# Altium integrated library TI Power Management Power Multiplexer (MUX).IntLib: 62 symbols (part 3 of 3)
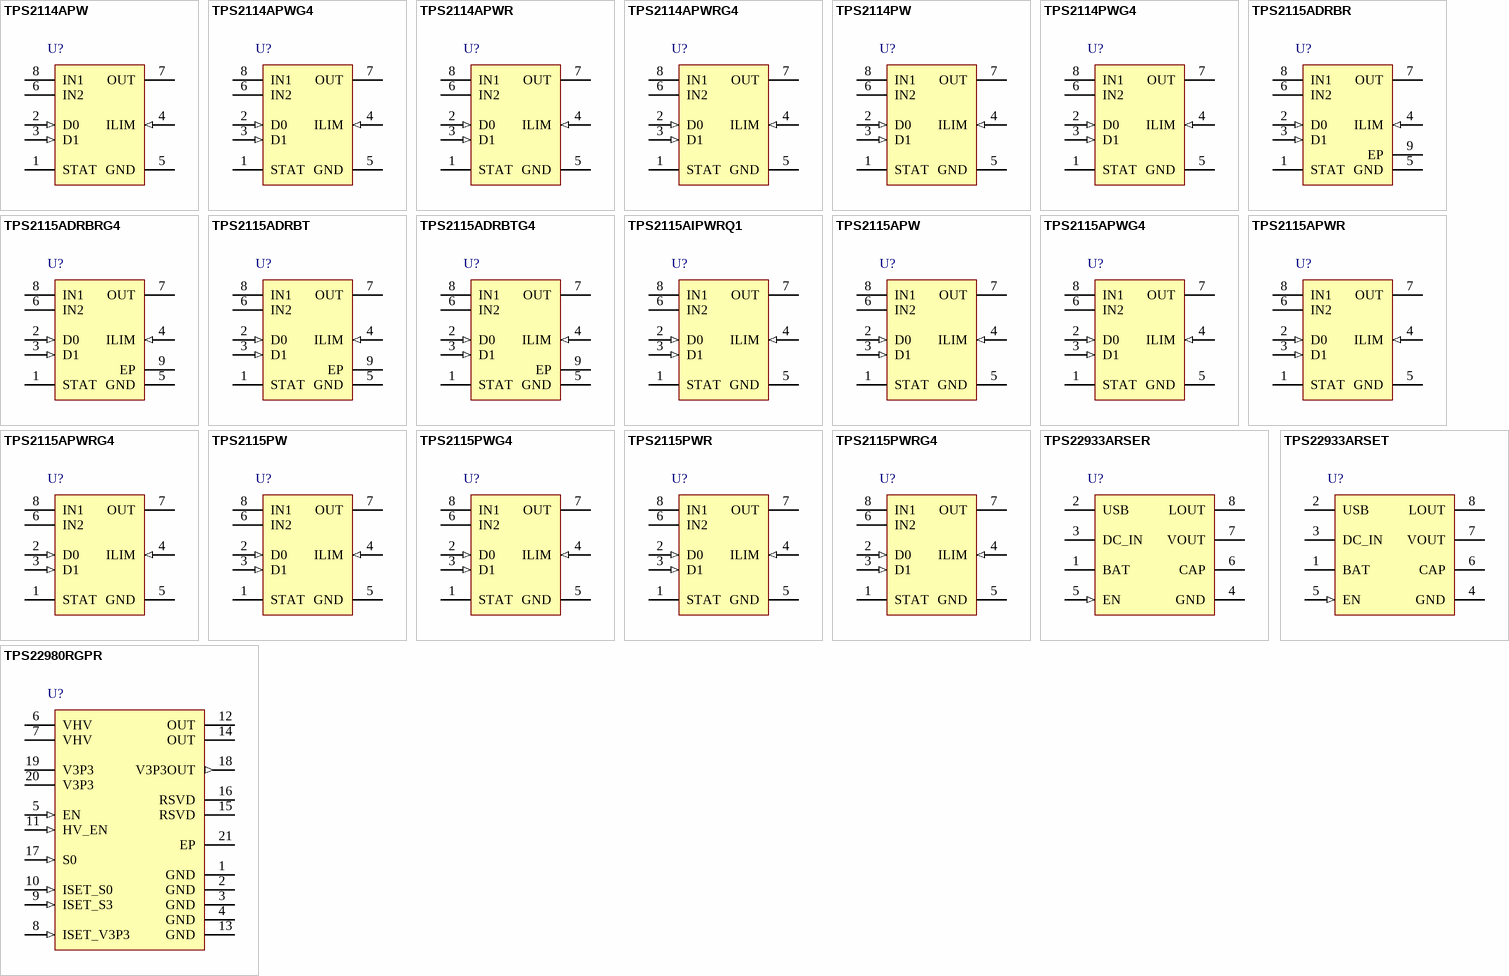
[diagram p3: symbols TPS2114APW to TPS22980RGPR]

## TPS2114APWR
designator U?
Dual In / Single Out Autoswitching Power Mux, 2.8 to 5.5 V, -40 to 85 degC, 8-pin TSSOP (PW), Green (RoHS & no Sb/Br); Manufacturer: Texas Instruments; PartNumber: TPS2114APWR; IN1 Output Current(Max)(A): 0.75; IN1 rDS(on)(Typ)(mOhm): 120; IN1, IN2 Input Voltage(Max)(V): 5.5; IN1, IN2 Input Voltage(Min)(V): 2.8; IN2 rDS(on)(Typ)(Ohms): 0.12; Number of Inputs: 2; SubFamily: Power Multiplexer (MUX); DatasheetVersion: SBVS044F; PackageVersion: revG, Feb-2011; PackageReference: PW8; PackageDescription: 8-Pin Plastic Thin Small Outline Package 3 x 4.4 mm Body ,0.65 mm Pitch; Supplier 1: Digi-Key; Supplier Part Number 1: 296-16939-2-ND; Supplier 2: Digi-Key; Supplier Part Number 2: 296-16939-1-ND; Supplier 3: Digi-Key; Supplier Part Number 3: 296-16939-6-ND; Supplier 4: Newark; Supplier Part Number 4: 01J0963; Supplier 5: Mouser; Supplier Part Number 5: 595-TPS2114APWR; Eco-Plan: Green (RoHS & no Sb/Br); IN2 Output Current(Max)(A): 0.75; Mounting Technology: Surface Mount; Code_JEDEC: MO-153; ComponentLink1Description: Datasheet; ComponentLink1URL: http://www.ti.com/general/docs/lit/getliterature.tsp?genericPartNumber=TPS2114A&fileType=pdf
footprint PW8_N (TSOP, 8-Leads, Body 3x4.4mm, Pitch 0.65mm, IPC Medium Density)
footprint PW8_L (TSOP, 8-Leads, Body 3x4.4mm, Pitch 0.65mm, IPC High Density)
footprint PW8_M (TSOP, 8-Leads, Body 3x4.4mm, Pitch 0.65mm, IPC Low Density)
pins: 1 STAT (hiz) "STAT is an open-drain output that is Hi-Z if the IN2 switch is ON. STAT pulls low if the IN1 switch is ON or if OUT is Hi-Z (i.e., E\N\ is equal to logic 0).", 2 D0 (in) "TTL- and CMOS-compatible input pins. Each pin has a 1-uA pull-up.", 3 D1 (in) "TTL- and CMOS-compatible input pins. Each pin has a 1-uA pull-up.", 4 ILIM (in) "A resistor RILIM from ILIM to GND sets the current limit IL to 250/RILIM .", 5 GND (power) "Ground", 6 IN2 (power) "Primary power switch input. The IN1 switch can be enabled only if the IN1 supply is above the UVLO threshold and at least one supply exceeds the internal VDD UVLO.", 7 OUT (power) "Power switch output", 8 IN1 (power) "Primary power switch input. The IN1 switch can be enabled only if the IN1 supply is above the UVLO threshold and at least one supply exceeds the internal VDD UVLO."

## TPS2114APWRG4
designator U?
Dual In / Single Out Autoswitching Power Mux, 2.8 to 5.5 V, -40 to 85 degC, 8-pin TSSOP (PW), Green (RoHS & no Sb/Br); Manufacturer: Texas Instruments; PartNumber: TPS2114APWRG4; IN1 Output Current(Max)(A): 0.75; IN1 rDS(on)(Typ)(mOhm): 120; IN1, IN2 Input Voltage(Max)(V): 5.5; IN1, IN2 Input Voltage(Min)(V): 2.8; IN2 rDS(on)(Typ)(Ohms): 0.12; Number of Inputs: 2; SubFamily: Power Multiplexer (MUX); DatasheetVersion: SBVS044F; PackageVersion: revG, Feb-2011; PackageReference: PW8; PackageDescription: 8-Pin Plastic Thin Small Outline Package 3 x 4.4 mm Body ,0.65 mm Pitch; Supplier 1: Digi-Key; Supplier Part Number 1: TPS2114APWRG4-ND; Supplier 2: Newark; Supplier Part Number 2: 54K1560; Supplier 3: Mouser; Supplier Part Number 3: 595-TPS2114APWRG4; Eco-Plan: Green (RoHS & no Sb/Br); IN2 Output Current(Max)(A): 0.75; Mounting Technology: Surface Mount; Code_JEDEC: MO-153; ComponentLink1Description: Datasheet; ComponentLink1URL: http://www.ti.com/general/docs/lit/getliterature.tsp?genericPartNumber=TPS2114A&fileType=pdf
footprint PW8_N (TSOP, 8-Leads, Body 3x4.4mm, Pitch 0.65mm, IPC Medium Density)
footprint PW8_L (TSOP, 8-Leads, Body 3x4.4mm, Pitch 0.65mm, IPC High Density)
footprint PW8_M (TSOP, 8-Leads, Body 3x4.4mm, Pitch 0.65mm, IPC Low Density)
pins: 1 STAT (hiz) "STAT is an open-drain output that is Hi-Z if the IN2 switch is ON. STAT pulls low if the IN1 switch is ON or if OUT is Hi-Z (i.e., E\N\ is equal to logic 0).", 2 D0 (in) "TTL- and CMOS-compatible input pins. Each pin has a 1-uA pull-up.", 3 D1 (in) "TTL- and CMOS-compatible input pins. Each pin has a 1-uA pull-up.", 4 ILIM (in) "A resistor RILIM from ILIM to GND sets the current limit IL to 250/RILIM .", 5 GND (power) "Ground", 6 IN2 (power) "Primary power switch input. The IN1 switch can be enabled only if the IN1 supply is above the UVLO threshold and at least one supply exceeds the internal VDD UVLO.", 7 OUT (power) "Power switch output", 8 IN1 (power) "Primary power switch input. The IN1 switch can be enabled only if the IN1 supply is above the UVLO threshold and at least one supply exceeds the internal VDD UVLO."

## TPS2114PW
designator U?
Dual In / Single Out Autoswitching Power MUX, Manual / Auto Switching, Adj. Cur Limit, Switch Status, 2.8 to 5.5 V, -40 to 85 degC, 8-pin TSSOP (PW), Green (RoHS & no Sb/Br); Manufacturer: Texas Instruments; PartNumber: TPS2114PW; IN1 Output Current(Max)(A): 0.75; IN1 rDS(on)(Typ)(mOhm): 120; IN1, IN2 Input Voltage(Max)(V): 5.5; IN1, IN2 Input Voltage(Min)(V): 2.8; IN2 rDS(on)(Typ)(Ohms): 0.12; Number of Inputs: 2; SubFamily: Power Multiplexer (MUX); DatasheetVersion: SLVS447A; PackageVersion: revG, Feb-2011; PackageReference: PW8; PackageDescription: 8-Pin Plastic Thin Small Outline Package 3 x 4.4 mm Body ,0.65 mm Pitch; Supplier 1: Digi-Key; Supplier Part Number 1: 296-14206-5-ND; Supplier 2: Newark; Supplier Part Number 2: 22H1365; Supplier 3: Mouser; Supplier Part Number 3: 595-TPS2114PW; Eco-Plan: Green (RoHS & no Sb/Br); IN2 Output Current(Max)(A): 0.75; Mounting Technology: Surface Mount; Code_JEDEC: MO-153; ComponentLink1Description: Datasheet; ComponentLink1URL: http://www.ti.com/general/docs/lit/getliterature.tsp?genericPartNumber=TPS2114&fileType=pdf
footprint PW8_N (TSOP, 8-Leads, Body 3x4.4mm, Pitch 0.65mm, IPC Medium Density)
footprint PW8_L (TSOP, 8-Leads, Body 3x4.4mm, Pitch 0.65mm, IPC High Density)
footprint PW8_M (TSOP, 8-Leads, Body 3x4.4mm, Pitch 0.65mm, IPC Low Density)
pins: 1 STAT (hiz) "STAT is an open-drain output that is Hi-Z if the IN2 switch is ON. STAT pulls low if the IN1 switch is ON or if OUT is Hi-Z (i.e., E\N\ is equal to logic 0).", 2 D0 (in) "TTL and CMOS compatible input pins. Each pin has a 1-µA pullup resistor. The truth table shown above illustrates the functionality of D0 and D1.", 3 D1 (in) "TTL and CMOS compatible input pins. Each pin has a 1-µA pullup resistor. The truth table shown above illustrates the functionality of D0 and D1.", 4 ILIM (in) "A resistor R(ILIM) from ILIM to GND sets the current limit I L to 250/R(ILIM) and 500/R(ILIM) for the TPS2114 and TPS2115, respectively.", 5 GND (power) "Ground", 6 IN2 (power) "Secondary power switch input. The IN2 switch can be enabled only if the IN2 supply is above the UVLO threshold and at least one supply exceeds the internal VDD UVLO.", 7 OUT (power) "Power switch output", 8 IN1 (power) "Primary power switch input. The IN1 switch can be enabled only if the IN1 supply is above the UVLO threshold and at least one supply exceeds the internal VDD UVLO."

## TPS2114PWG4
designator U?
Dual In / Single Out Autoswitching Power MUX, Manual / Auto Switching, Adj. Cur Limit, Switch Status, 2.8 to 5.5 V, -40 to 85 degC, 8-pin TSSOP (PW), Green (RoHS & no Sb/Br); Manufacturer: Texas Instruments; PartNumber: TPS2114PWG4; IN1 Output Current(Max)(A): 0.75; IN1 rDS(on)(Typ)(mOhm): 120; IN1, IN2 Input Voltage(Max)(V): 5.5; IN1, IN2 Input Voltage(Min)(V): 2.8; IN2 rDS(on)(Typ)(Ohms): 0.12; Number of Inputs: 2; SubFamily: Power Multiplexer (MUX); DatasheetVersion: SLVS447A; PackageVersion: revG, Feb-2011; PackageReference: PW8; PackageDescription: 8-Pin Plastic Thin Small Outline Package 3 x 4.4 mm Body ,0.65 mm Pitch; Supplier 1: Digi-Key; Supplier Part Number 1: TPS2114PWG4-ND; Supplier 2: Newark; Supplier Part Number 2: 02M4304; Supplier 3: Mouser; Supplier Part Number 3: 595-TPS2114PWG4; Eco-Plan: Green (RoHS & no Sb/Br); IN2 Output Current(Max)(A): 0.75; Mounting Technology: Surface Mount; Code_JEDEC: MO-153; ComponentLink1Description: Datasheet; ComponentLink1URL: http://www.ti.com/general/docs/lit/getliterature.tsp?genericPartNumber=TPS2114&fileType=pdf
footprint PW8_N (TSOP, 8-Leads, Body 3x4.4mm, Pitch 0.65mm, IPC Medium Density)
footprint PW8_L (TSOP, 8-Leads, Body 3x4.4mm, Pitch 0.65mm, IPC High Density)
footprint PW8_M (TSOP, 8-Leads, Body 3x4.4mm, Pitch 0.65mm, IPC Low Density)
pins: 1 STAT (hiz) "STAT is an open-drain output that is Hi-Z if the IN2 switch is ON. STAT pulls low if the IN1 switch is ON or if OUT is Hi-Z (i.e., E\N\ is equal to logic 0).", 2 D0 (in) "TTL and CMOS compatible input pins. Each pin has a 1-µA pullup resistor. The truth table shown above illustrates the functionality of D0 and D1.", 3 D1 (in) "TTL and CMOS compatible input pins. Each pin has a 1-µA pullup resistor. The truth table shown above illustrates the functionality of D0 and D1.", 4 ILIM (in) "A resistor R(ILIM) from ILIM to GND sets the current limit I L to 250/R(ILIM) and 500/R(ILIM) for the TPS2114 and TPS2115, respectively.", 5 GND (power) "Ground", 6 IN2 (power) "Secondary power switch input. The IN2 switch can be enabled only if the IN2 supply is above the UVLO threshold and at least one supply exceeds the internal VDD UVLO.", 7 OUT (power) "Power switch output", 8 IN1 (power) "Primary power switch input. The IN1 switch can be enabled only if the IN1 supply is above the UVLO threshold and at least one supply exceeds the internal VDD UVLO."

## TPS2115ADRBR
designator U?
Dual In / Single Out Autoswitching Power Mux, 2.8 to 5.5 V, -40 to 85 degC, 8-pin SON (DRB), Green (RoHS & no Sb/Br); Manufacturer: Texas Instruments; PartNumber: TPS2115ADRBR; IN1 Output Current(Max)(A): 1.25; IN1 rDS(on)(Typ)(mOhm): 84; IN1, IN2 Input Voltage(Max)(V): 5.5; IN1, IN2 Input Voltage(Min)(V): 2.8; IN2 rDS(on)(Typ)(Ohms): 0.084; Number of Inputs: 2; SubFamily: Power Multiplexer (MUX); DatasheetVersion: SBVS044F; PackageVersion: revK, Jun-2012; PackageReference: DRB8-2400X1650TP; PackageDescription: 8-Pin Plastic Small Outline No-Lead, 3 x 3 x 1 mm Body, 0.65 mm Pitch, Exposed Pad; Supplier 1: Digi-Key; Supplier Part Number 1: 296-23394-2-ND; Supplier 2: Digi-Key; Supplier Part Number 2: 296-23394-1-ND; Supplier 3: Digi-Key; Supplier Part Number 3: 296-23394-6-ND; Supplier 4: Newark; Supplier Part Number 4: 99M6394; Supplier 5: Mouser; Supplier Part Number 5: 595-TPS2115ADRBR; Eco-Plan: Green (RoHS & no Sb/Br); IN2 Output Current(Max)(A): 1.25; Mounting Technology: Surface Mount; ComponentLink1Description: Datasheet; ComponentLink1URL: http://www.ti.com/general/docs/lit/getliterature.tsp?genericPartNumber=TPS2115A&fileType=pdf
footprint DRB8-2400X1650TP (SON, 8-Leads, Body 3x3mm, Pitch 0.65mm, Thermal Pad 2.4x1.65mm, TI Recommended)
pins: 1 STAT (hiz) "STAT is an open-drain output that is Hi-Z if the IN2 switch is ON. STAT pulls low if the IN1 switch is ON or if OUT is Hi-Z (i.e., E\N\ is equal to logic 0).", 2 D0 (in) "TTL- and CMOS-compatible input pins. Each pin has a 1-uA pull-up.", 3 D1 (in) "TTL- and CMOS-compatible input pins. Each pin has a 1-uA pull-up.", 4 ILIM (in) "A resistor RILIM from ILIM to GND sets the current limit IL to 500/RILIM", 5 GND (power) "Ground", 6 IN2 (power) "Secondary power switch input. The IN2 switch can be enabled only if the IN2 supply is above the UVLO threshold and at least one supply exceeds the internal VDD UVLO.", 7 OUT (power) "Power switch output", 8 IN1 (power) "Primary power switch input. The IN1 switch can be enabled only if the IN1 supply is above the UVLO threshold and at least one supply exceeds the internal VDD UVLO.", 9 EP (power) "Tie to GND. Connect to internal planes for improved heatsinking with multiple vias."

## TPS2115ADRBRG4
designator U?
Dual In / Single Out Autoswitching Power Mux, 2.8 to 5.5 V, -40 to 85 degC, 8-pin SON (DRB), Green (RoHS & no Sb/Br); Manufacturer: Texas Instruments; PartNumber: TPS2115ADRBRG4; IN1 Output Current(Max)(A): 1.25; IN1 rDS(on)(Typ)(mOhm): 84; IN1, IN2 Input Voltage(Max)(V): 5.5; IN1, IN2 Input Voltage(Min)(V): 2.8; IN2 rDS(on)(Typ)(Ohms): 0.084; Number of Inputs: 2; SubFamily: Power Multiplexer (MUX); DatasheetVersion: SBVS044F; PackageVersion: revK, Jun-2012; PackageReference: DRB8-2400X1650TP; PackageDescription: 8-Pin Plastic Small Outline No-Lead, 3 x 3 x 1 mm Body, 0.65 mm Pitch, Exposed Pad; Supplier 1: Digi-Key; Supplier Part Number 1: TPS2115ADRBRG4-ND; Supplier 2: Newark; Supplier Part Number 2: 03P5160; Supplier 3: Mouser; Supplier Part Number 3: 595-TPS2115ADRBRG4; Eco-Plan: Green (RoHS & no Sb/Br); IN2 Output Current(Max)(A): 1.25; Mounting Technology: Surface Mount; ComponentLink1Description: Datasheet; ComponentLink1URL: http://www.ti.com/general/docs/lit/getliterature.tsp?genericPartNumber=TPS2115A&fileType=pdf
footprint DRB8-2400X1650TP (SON, 8-Leads, Body 3x3mm, Pitch 0.65mm, Thermal Pad 2.4x1.65mm, TI Recommended)
pins: 1 STAT (hiz) "STAT is an open-drain output that is Hi-Z if the IN2 switch is ON. STAT pulls low if the IN1 switch is ON or if OUT is Hi-Z (i.e., E\N\ is equal to logic 0).", 2 D0 (in) "TTL- and CMOS-compatible input pins. Each pin has a 1-uA pull-up.", 3 D1 (in) "TTL- and CMOS-compatible input pins. Each pin has a 1-uA pull-up.", 4 ILIM (in) "A resistor RILIM from ILIM to GND sets the current limit IL to 500/RILIM", 5 GND (power) "Ground", 6 IN2 (power) "Secondary power switch input. The IN2 switch can be enabled only if the IN2 supply is above the UVLO threshold and at least one supply exceeds the internal VDD UVLO.", 7 OUT (power) "Power switch output", 8 IN1 (power) "Primary power switch input. The IN1 switch can be enabled only if the IN1 supply is above the UVLO threshold and at least one supply exceeds the internal VDD UVLO.", 9 EP (power) "Tie to GND. Connect to internal planes for improved heatsinking with multiple vias."

## TPS2115ADRBT
designator U?
Dual In / Single Out Autoswitching Power Mux, 2.8 to 5.5 V, -40 to 85 degC, 8-pin SON (DRB), Green (RoHS & no Sb/Br); Manufacturer: Texas Instruments; PartNumber: TPS2115ADRBT; IN1 Output Current(Max)(A): 1.25; IN1 rDS(on)(Typ)(mOhm): 84; IN1, IN2 Input Voltage(Max)(V): 5.5; IN1, IN2 Input Voltage(Min)(V): 2.8; IN2 rDS(on)(Typ)(Ohms): 0.084; Number of Inputs: 2; SubFamily: Power Multiplexer (MUX); DatasheetVersion: SBVS044F; PackageVersion: revK, Jun-2012; PackageReference: DRB8-2400X1650TP; PackageDescription: 8-Pin Plastic Small Outline No-Lead, 3 x 3 x 1 mm Body, 0.65 mm Pitch, Exposed Pad; Supplier 1: Digi-Key; Supplier Part Number 1: TPS2115ADRBT-ND; Supplier 2: Mouser; Supplier Part Number 2: 595-TPS2115ADRBT; Eco-Plan: Green (RoHS & no Sb/Br); IN2 Output Current(Max)(A): 1.25; Mounting Technology: Surface Mount; ComponentLink1Description: Datasheet; ComponentLink1URL: http://www.ti.com/general/docs/lit/getliterature.tsp?genericPartNumber=TPS2115A&fileType=pdf
footprint DRB8-2400X1650TP (SON, 8-Leads, Body 3x3mm, Pitch 0.65mm, Thermal Pad 2.4x1.65mm, TI Recommended)
pins: 1 STAT (hiz) "STAT is an open-drain output that is Hi-Z if the IN2 switch is ON. STAT pulls low if the IN1 switch is ON or if OUT is Hi-Z (i.e., E\N\ is equal to logic 0).", 2 D0 (in) "TTL- and CMOS-compatible input pins. Each pin has a 1-uA pull-up.", 3 D1 (in) "TTL- and CMOS-compatible input pins. Each pin has a 1-uA pull-up.", 4 ILIM (in) "A resistor RILIM from ILIM to GND sets the current limit IL to 500/RILIM", 5 GND (power) "Ground", 6 IN2 (power) "Secondary power switch input. The IN2 switch can be enabled only if the IN2 supply is above the UVLO threshold and at least one supply exceeds the internal VDD UVLO.", 7 OUT (power) "Power switch output", 8 IN1 (power) "Primary power switch input. The IN1 switch can be enabled only if the IN1 supply is above the UVLO threshold and at least one supply exceeds the internal VDD UVLO.", 9 EP (power) "Tie to GND. Connect to internal planes for improved heatsinking with multiple vias."

## TPS2115ADRBTG4
designator U?
Dual In / Single Out Autoswitching Power Mux, 2.8 to 5.5 V, -40 to 85 degC, 8-pin SON (DRB), Green (RoHS & no Sb/Br); Manufacturer: Texas Instruments; PartNumber: TPS2115ADRBTG4; IN1 Output Current(Max)(A): 1.25; IN1 rDS(on)(Typ)(mOhm): 84; IN1, IN2 Input Voltage(Max)(V): 5.5; IN1, IN2 Input Voltage(Min)(V): 2.8; IN2 rDS(on)(Typ)(Ohms): 0.084; Number of Inputs: 2; SubFamily: Power Multiplexer (MUX); DatasheetVersion: SBVS044F; PackageVersion: revK, Jun-2012; PackageReference: DRB8-2400X1650TP; PackageDescription: 8-Pin Plastic Small Outline No-Lead, 3 x 3 x 1 mm Body, 0.65 mm Pitch, Exposed Pad; Supplier 1: Digi-Key; Supplier Part Number 1: TPS2115ADRBTG4-ND; Supplier 2: Newark; Supplier Part Number 2: 03P5161; Supplier 3: Mouser; Supplier Part Number 3: 595-TPS2115ADRBTG4; Eco-Plan: Green (RoHS & no Sb/Br); IN2 Output Current(Max)(A): 1.25; Mounting Technology: Surface Mount; ComponentLink1Description: Datasheet; ComponentLink1URL: http://www.ti.com/general/docs/lit/getliterature.tsp?genericPartNumber=TPS2115A&fileType=pdf
footprint DRB8-2400X1650TP (SON, 8-Leads, Body 3x3mm, Pitch 0.65mm, Thermal Pad 2.4x1.65mm, TI Recommended)
pins: 1 STAT (hiz) "STAT is an open-drain output that is Hi-Z if the IN2 switch is ON. STAT pulls low if the IN1 switch is ON or if OUT is Hi-Z (i.e., E\N\ is equal to logic 0).", 2 D0 (in) "TTL- and CMOS-compatible input pins. Each pin has a 1-uA pull-up.", 3 D1 (in) "TTL- and CMOS-compatible input pins. Each pin has a 1-uA pull-up.", 4 ILIM (in) "A resistor RILIM from ILIM to GND sets the current limit IL to 500/RILIM", 5 GND (power) "Ground", 6 IN2 (power) "Secondary power switch input. The IN2 switch can be enabled only if the IN2 supply is above the UVLO threshold and at least one supply exceeds the internal VDD UVLO.", 7 OUT (power) "Power switch output", 8 IN1 (power) "Primary power switch input. The IN1 switch can be enabled only if the IN1 supply is above the UVLO threshold and at least one supply exceeds the internal VDD UVLO.", 9 EP (power) "Tie to GND. Connect to internal planes for improved heatsinking with multiple vias."

## TPS2115AIPWRQ1
designator U?
Dual In / Single Out Automotive Catalog Autoswitching Power Mux, 2.8 to 5.5 V, -40 to 85 degC, 8-pin TSSOP (PW), Green (RoHS & no Sb/Br); Manufacturer: Texas Instruments; PartNumber: TPS2115AIPWRQ1; IN1 Output Current(Max)(A): 1.25; IN1 rDS(on)(Typ)(mOhm): 84; IN1, IN2 Input Voltage(Max)(V): 5.5; IN1, IN2 Input Voltage(Min)(V): 2.8; IN2 rDS(on)(Typ)(Ohms): 0.084; Number of Inputs: 2; SubFamily: Power Multiplexer (MUX); DatasheetVersion: SBVS124; PackageVersion: revG, Feb-2011; PackageReference: PW8; PackageDescription: 8-Pin Plastic Thin Small Outline Package 3 x 4.4 mm Body ,0.65 mm Pitch; Supplier 1: Digi-Key; Supplier Part Number 1: 296-24155-2-ND; Supplier 2: Digi-Key; Supplier Part Number 2: 296-24155-1-ND; Supplier 3: Digi-Key; Supplier Part Number 3: 296-24155-6-ND; Supplier 4: Newark; Supplier Part Number 4: 52P6807; Supplier 5: Mouser; Supplier Part Number 5: 595-TPS2115AIPWRQ1; Eco-Plan: Green (RoHS & no Sb/Br); IN2 Output Current(Max)(A): 1.25; Mounting Technology: Surface Mount; Code_JEDEC: MO-153; ComponentLink1Description: Datasheet; ComponentLink1URL: http://www.ti.com/general/docs/lit/getliterature.tsp?genericPartNumber=TPS2115A-Q1&fileType=pdf
footprint PW8_N (TSOP, 8-Leads, Body 3x4.4mm, Pitch 0.65mm, IPC Medium Density)
footprint PW8_L (TSOP, 8-Leads, Body 3x4.4mm, Pitch 0.65mm, IPC High Density)
footprint PW8_M (TSOP, 8-Leads, Body 3x4.4mm, Pitch 0.65mm, IPC Low Density)
pins: 1 STAT (hiz) "Open-drain output that is Hi-Z if the IN2 switch is ON. STAT pulls low if the IN1 switch is ON or if OUT is Hi-Z STAT (i.e., EN is equal to logic 0).", 2 D0 (in) "TTL- and CMOS-compatible input pins. Each pin has a 1-uA pullup. The Truth Table shows the functionality of D0.", 3 D1 (in) "TTL- and CMOS-compatible input pins. Each pin has a 1-uA pullup. The Truth Table shows the functionality of D1.", 4 ILIM (in) "A resistor RILIM from ILIM to GND sets the current limit IL to 500/RILIM.", 5 GND (power) "Ground", 6 IN2 (power) "Secondary power switch input. The IN2 switch can be enabled only if the IN2 supply is above the UVLO IN2 threshold and at least one supply exceeds the internal VDD UVLO.", 7 OUT (power) "Power switch output", 8 IN1 (power) "Primary power switch input. The IN1 switch can be enabled only if the IN1 supply is above the UVLO IN1 threshold and at least one supply exceeds the internal VDD UVLO."

## TPS2115APW
designator U?
Dual In / Single Out Autoswitching Power Mux, 2.8 to 5.5 V, -40 to 85 degC, 8-pin TSSOP (PW), Green (RoHS & no Sb/Br); Manufacturer: Texas Instruments; PartNumber: TPS2115APW; IN1 Output Current(Max)(A): 1.25; IN1 rDS(on)(Typ)(mOhm): 84; IN1, IN2 Input Voltage(Max)(V): 5.5; IN1, IN2 Input Voltage(Min)(V): 2.8; IN2 rDS(on)(Typ)(Ohms): 0.084; Number of Inputs: 2; SubFamily: Power Multiplexer (MUX); DatasheetVersion: SBVS044F; PackageVersion: revG, Feb-2011; PackageReference: PW8; PackageDescription: 8-Pin Plastic Thin Small Outline Package 3 x 4.4 mm Body ,0.65 mm Pitch; Supplier 1: Digi-Key; Supplier Part Number 1: 296-26918-5-ND; Supplier 2: Farnell; Supplier Part Number 2: 2075397; Supplier 3: Newark; Supplier Part Number 3: 82T3163; Supplier 4: Newark; Supplier Part Number 4: 01J0964; Supplier 5: Mouser; Supplier Part Number 5: 595-TPS2115APW; Eco-Plan: Green (RoHS & no Sb/Br); IN2 Output Current(Max)(A): 1.25; Mounting Technology: Surface Mount; Code_JEDEC: MO-153; ComponentLink1Description: Datasheet; ComponentLink1URL: http://www.ti.com/general/docs/lit/getliterature.tsp?genericPartNumber=TPS2115A&fileType=pdf
footprint PW8_N (TSOP, 8-Leads, Body 3x4.4mm, Pitch 0.65mm, IPC Medium Density)
footprint PW8_L (TSOP, 8-Leads, Body 3x4.4mm, Pitch 0.65mm, IPC High Density)
footprint PW8_M (TSOP, 8-Leads, Body 3x4.4mm, Pitch 0.65mm, IPC Low Density)
pins: 1 STAT (hiz) "STAT is an open-drain output that is Hi-Z if the IN2 switch is ON. STAT pulls low if the IN1 switch is ON or if OUT is Hi-Z (i.e., E\N\ is equal to logic 0).", 2 D0 (in) "TTL- and CMOS-compatible input pin. Each pin has a 1-µA pull-up. Table 1 illustrates the functionality of D0 and D1.", 3 D1 (in) "TTL- and CMOS-compatible input pin. Each pin has a 1-µA pull-up. Table 1 illustrates the functionality of D0 and D1.", 4 ILIM (in) "A resistor RILIM from ILIM to GND sets the current limit IL to 500/RILIM for the TPS2115A", 5 GND (power) "Ground", 6 IN2 (power) "Secondary power switch input. The IN2 switch can be enabled only if the IN2 supply is above the UVLO threshold and at least one supply exceeds the internal VDD UVLO.", 7 OUT (power) "Power switch output", 8 IN1 (power) "Primary power switch input. The IN1 switch can be enabled only if the IN1 supply is above the UVLO threshold and at least one supply exceeds the internal VDD UVLO."

## TPS2115APWG4
designator U?
Dual In / Single Out Autoswitching Power Mux, 2.8 to 5.5 V, -40 to 85 degC, 8-pin TSSOP (PW), Green (RoHS & no Sb/Br); Manufacturer: Texas Instruments; PartNumber: TPS2115APWG4; IN1 Output Current(Max)(A): 1.25; IN1 rDS(on)(Typ)(mOhm): 84; IN1, IN2 Input Voltage(Max)(V): 5.5; IN1, IN2 Input Voltage(Min)(V): 2.8; IN2 rDS(on)(Typ)(Ohms): 0.084; Number of Inputs: 2; SubFamily: Power Multiplexer (MUX); DatasheetVersion: SBVS044F; PackageVersion: revG, Feb-2011; PackageReference: PW8; PackageDescription: 8-Pin Plastic Thin Small Outline Package 3 x 4.4 mm Body ,0.65 mm Pitch; Supplier 1: Digi-Key; Supplier Part Number 1: TPS2115APWG4-ND; Supplier 2: Newark; Supplier Part Number 2: 67K8621; Supplier 3: Mouser; Supplier Part Number 3: 595-TPS2115APWG4; Eco-Plan: Green (RoHS & no Sb/Br); IN2 Output Current(Max)(A): 1.25; Mounting Technology: Surface Mount; Code_JEDEC: MO-153; ComponentLink1Description: Datasheet; ComponentLink1URL: http://www.ti.com/general/docs/lit/getliterature.tsp?genericPartNumber=TPS2115A&fileType=pdf
footprint PW8_N (TSOP, 8-Leads, Body 3x4.4mm, Pitch 0.65mm, IPC Medium Density)
footprint PW8_L (TSOP, 8-Leads, Body 3x4.4mm, Pitch 0.65mm, IPC High Density)
footprint PW8_M (TSOP, 8-Leads, Body 3x4.4mm, Pitch 0.65mm, IPC Low Density)
pins: 1 STAT (hiz) "STAT is an open-drain output that is Hi-Z if the IN2 switch is ON. STAT pulls low if the IN1 switch is ON or if OUT is Hi-Z (i.e., E\N\ is equal to logic 0).", 2 D0 (in) "TTL- and CMOS-compatible input pin. Each pin has a 1-µA pull-up. Table 1 illustrates the functionality of D0 and D1.", 3 D1 (in) "TTL- and CMOS-compatible input pin. Each pin has a 1-µA pull-up. Table 1 illustrates the functionality of D0 and D1.", 4 ILIM (in) "A resistor RILIM from ILIM to GND sets the current limit IL to 500/RILIM for the TPS2115A", 5 GND (power) "Ground", 6 IN2 (power) "Secondary power switch input. The IN2 switch can be enabled only if the IN2 supply is above the UVLO threshold and at least one supply exceeds the internal VDD UVLO.", 7 OUT (power) "Power switch output", 8 IN1 (power) "Primary power switch input. The IN1 switch can be enabled only if the IN1 supply is above the UVLO threshold and at least one supply exceeds the internal VDD UVLO."

## TPS2115APWR
designator U?
Dual In / Single Out Autoswitching Power Mux, 2.8 to 5.5 V, -40 to 85 degC, 8-pin TSSOP (PW), Green (RoHS & no Sb/Br); Manufacturer: Texas Instruments; PartNumber: TPS2115APWR; IN1 Output Current(Max)(A): 1.25; IN1 rDS(on)(Typ)(mOhm): 84; IN1, IN2 Input Voltage(Max)(V): 5.5; IN1, IN2 Input Voltage(Min)(V): 2.8; IN2 rDS(on)(Typ)(Ohms): 0.084; Number of Inputs: 2; SubFamily: Power Multiplexer (MUX); DatasheetVersion: SBVS044F; PackageVersion: revG, Feb-2011; PackageReference: PW8; PackageDescription: 8-Pin Plastic Thin Small Outline Package 3 x 4.4 mm Body ,0.65 mm Pitch; Supplier 1: Digi-Key; Supplier Part Number 1: 296-16940-2-ND; Supplier 2: Digi-Key; Supplier Part Number 2: 296-16940-1-ND; Supplier 3: Digi-Key; Supplier Part Number 3: 296-16940-6-ND; Supplier 4: Newark; Supplier Part Number 4: 94T5091; Supplier 5: Newark; Supplier Part Number 5: 01J0965; Supplier 6: Mouser; Supplier Part Number 6: 595-TPS2115APWR; Eco-Plan: Green (RoHS & no Sb/Br); IN2 Output Current(Max)(A): 1.25; Mounting Technology: Surface Mount; Code_JEDEC: MO-153; ComponentLink1Description: Datasheet; ComponentLink1URL: http://www.ti.com/general/docs/lit/getliterature.tsp?genericPartNumber=TPS2115A&fileType=pdf
footprint PW8_N (TSOP, 8-Leads, Body 3x4.4mm, Pitch 0.65mm, IPC Medium Density)
footprint PW8_L (TSOP, 8-Leads, Body 3x4.4mm, Pitch 0.65mm, IPC High Density)
footprint PW8_M (TSOP, 8-Leads, Body 3x4.4mm, Pitch 0.65mm, IPC Low Density)
pins: 1 STAT (hiz) "STAT is an open-drain output that is Hi-Z if the IN2 switch is ON. STAT pulls low if the IN1 switch is ON or if OUT is Hi-Z (i.e., E\N\ is equal to logic 0).", 2 D0 (in) "TTL- and CMOS-compatible input pin. Each pin has a 1-µA pull-up. Table 1 illustrates the functionality of D0 and D1.", 3 D1 (in) "TTL- and CMOS-compatible input pin. Each pin has a 1-µA pull-up. Table 1 illustrates the functionality of D0 and D1.", 4 ILIM (in) "A resistor RILIM from ILIM to GND sets the current limit IL to 500/RILIM for the TPS2115A", 5 GND (power) "Ground", 6 IN2 (power) "Secondary power switch input. The IN2 switch can be enabled only if the IN2 supply is above the UVLO threshold and at least one supply exceeds the internal VDD UVLO.", 7 OUT (power) "Power switch output", 8 IN1 (power) "Primary power switch input. The IN1 switch can be enabled only if the IN1 supply is above the UVLO threshold and at least one supply exceeds the internal VDD UVLO."

## TPS2115APWRG4
designator U?
Dual In / Single Out Autoswitching Power Mux, 2.8 to 5.5 V, -40 to 85 degC, 8-pin TSSOP (PW), Green (RoHS & no Sb/Br); Manufacturer: Texas Instruments; PartNumber: TPS2115APWRG4; IN1 Output Current(Max)(A): 1.25; IN1 rDS(on)(Typ)(mOhm): 84; IN1, IN2 Input Voltage(Max)(V): 5.5; IN1, IN2 Input Voltage(Min)(V): 2.8; IN2 rDS(on)(Typ)(Ohms): 0.084; Number of Inputs: 2; SubFamily: Power Multiplexer (MUX); DatasheetVersion: SBVS044F; PackageVersion: revG, Feb-2011; PackageReference: PW8; PackageDescription: 8-Pin Plastic Thin Small Outline Package 3 x 4.4 mm Body ,0.65 mm Pitch; Supplier 1: Digi-Key; Supplier Part Number 1: TPS2115APWRG4-ND; Supplier 2: Newark; Supplier Part Number 2: 24K5842; Supplier 3: Mouser; Supplier Part Number 3: 595-TPS2115APWRG4; Eco-Plan: Green (RoHS & no Sb/Br); IN2 Output Current(Max)(A): 1.25; Mounting Technology: Surface Mount; Code_JEDEC: MO-153; ComponentLink1Description: Datasheet; ComponentLink1URL: http://www.ti.com/general/docs/lit/getliterature.tsp?genericPartNumber=TPS2115A&fileType=pdf
footprint PW8_N (TSOP, 8-Leads, Body 3x4.4mm, Pitch 0.65mm, IPC Medium Density)
footprint PW8_L (TSOP, 8-Leads, Body 3x4.4mm, Pitch 0.65mm, IPC High Density)
footprint PW8_M (TSOP, 8-Leads, Body 3x4.4mm, Pitch 0.65mm, IPC Low Density)
pins: 1 STAT (hiz) "STAT is an open-drain output that is Hi-Z if the IN2 switch is ON. STAT pulls low if the IN1 switch is ON or if OUT is Hi-Z (i.e., E\N\ is equal to logic 0).", 2 D0 (in) "TTL- and CMOS-compatible input pin. Each pin has a 1-µA pull-up. Table 1 illustrates the functionality of D0 and D1.", 3 D1 (in) "TTL- and CMOS-compatible input pin. Each pin has a 1-µA pull-up. Table 1 illustrates the functionality of D0 and D1.", 4 ILIM (in) "A resistor RILIM from ILIM to GND sets the current limit IL to 500/RILIM for the TPS2115A", 5 GND (power) "Ground", 6 IN2 (power) "Secondary power switch input. The IN2 switch can be enabled only if the IN2 supply is above the UVLO threshold and at least one supply exceeds the internal VDD UVLO.", 7 OUT (power) "Power switch output", 8 IN1 (power) "Primary power switch input. The IN1 switch can be enabled only if the IN1 supply is above the UVLO threshold and at least one supply exceeds the internal VDD UVLO."

## TPS2115PW
designator U?
Dual In / Single Out Autoswitching Power MUX, Manual / Auto Switching, Adj. Cur Limit, Switch Status, 2.8 to 5.5 V, -40 to 85 degC, 8-pin TSSOP (PW), Green (RoHS & no Sb/Br); Manufacturer: Texas Instruments; PartNumber: TPS2115PW; IN1 Output Current(Max)(A): 1.25; IN1 rDS(on)(Typ)(mOhm): 84; IN1, IN2 Input Voltage(Max)(V): 5.5; IN1, IN2 Input Voltage(Min)(V): 2.8; IN2 rDS(on)(Typ)(Ohms): 0.084; Number of Inputs: 2; SubFamily: Power Multiplexer (MUX); DatasheetVersion: SLVS447A; PackageVersion: revG, Feb-2011; PackageReference: PW8; PackageDescription: 8-Pin Plastic Thin Small Outline Package 3 x 4.4 mm Body ,0.65 mm Pitch; Supplier 1: Digi-Key; Supplier Part Number 1: 296-14207-5-ND; Supplier 2: Newark; Supplier Part Number 2: 22H1367; Supplier 3: Mouser; Supplier Part Number 3: 595-TPS2115PW; Eco-Plan: Green (RoHS & no Sb/Br); IN2 Output Current(Max)(A): 1.25; Mounting Technology: Surface Mount; Code_JEDEC: MO-153; ComponentLink1Description: Datasheet; ComponentLink1URL: http://www.ti.com/general/docs/lit/getliterature.tsp?genericPartNumber=TPS2115&fileType=pdf
footprint PW8_N (TSOP, 8-Leads, Body 3x4.4mm, Pitch 0.65mm, IPC Medium Density)
footprint PW8_L (TSOP, 8-Leads, Body 3x4.4mm, Pitch 0.65mm, IPC High Density)
footprint PW8_M (TSOP, 8-Leads, Body 3x4.4mm, Pitch 0.65mm, IPC Low Density)
pins: 1 STAT (hiz) "STAT is an open-drain output that is Hi-Z if the IN2 switch is ON. STAT pulls low if the IN1 switch is ON or if OUT is Hi-Z (i.e., E\N\ is equal to logic 0).", 2 D0 (in) "TTL and CMOS compatible input pins. Each pin has a 1-uA pullup resistor. The truth table shown above illustrates the functionality of D0 and D1.", 3 D1 (in) "TTL and CMOS compatible input pins. Each pin has a 1-uA pullup resistor. The truth table shown above illustrates the functionality of D0 and D1.", 4 ILIM (in) "A resistor R(ILIM) from ILIM to GND sets the current limit I L to 250/R(ILIM) and 500/R(ILIM) for the TPS2114 and TPS2115, respectively.", 5 GND (power) "Ground", 6 IN2 (power) "Secondary power switch input. The IN2 switch can be enabled only if the IN2 supply is above the UVLO threshold and at least one supply exceeds the internal VDD UVLO.", 7 OUT (power) "Power switch output", 8 IN1 (power) "Primary power switch input. The IN1 switch can be enabled only if the IN1 supply is above the UVLO threshold and at least one supply exceeds the internal VDD UVLO."

## TPS2115PWG4
designator U?
Dual In / Single Out Autoswitching Power MUX, Manual / Auto Switching, Adj. Cur Limit, Switch Status, 2.8 to 5.5 V, -40 to 85 degC, 8-pin TSSOP (PW), Green (RoHS & no Sb/Br); Manufacturer: Texas Instruments; PartNumber: TPS2115PWG4; IN1 Output Current(Max)(A): 1.25; IN1 rDS(on)(Typ)(mOhm): 84; IN1, IN2 Input Voltage(Max)(V): 5.5; IN1, IN2 Input Voltage(Min)(V): 2.8; IN2 rDS(on)(Typ)(Ohms): 0.084; Number of Inputs: 2; SubFamily: Power Multiplexer (MUX); DatasheetVersion: SLVS447A; PackageVersion: revG, Feb-2011; PackageReference: PW8; PackageDescription: 8-Pin Plastic Thin Small Outline Package 3 x 4.4 mm Body ,0.65 mm Pitch; Supplier 1: Digi-Key; Supplier Part Number 1: TPS2115PWG4-ND; Supplier 2: Newark; Supplier Part Number 2: 70K5701; Supplier 3: Mouser; Supplier Part Number 3: 595-TPS2115PWG4; Eco-Plan: Green (RoHS & no Sb/Br); IN2 Output Current(Max)(A): 1.25; Mounting Technology: Surface Mount; Code_JEDEC: MO-153; ComponentLink1Description: Datasheet; ComponentLink1URL: http://www.ti.com/general/docs/lit/getliterature.tsp?genericPartNumber=TPS2115&fileType=pdf
footprint PW8_N (TSOP, 8-Leads, Body 3x4.4mm, Pitch 0.65mm, IPC Medium Density)
footprint PW8_L (TSOP, 8-Leads, Body 3x4.4mm, Pitch 0.65mm, IPC High Density)
footprint PW8_M (TSOP, 8-Leads, Body 3x4.4mm, Pitch 0.65mm, IPC Low Density)
pins: 1 STAT (hiz) "STAT is an open-drain output that is Hi-Z if the IN2 switch is ON. STAT pulls low if the IN1 switch is ON or if OUT is Hi-Z (i.e., E\N\ is equal to logic 0).", 2 D0 (in) "TTL and CMOS compatible input pins. Each pin has a 1-uA pullup resistor. The truth table shown above illustrates the functionality of D0 and D1.", 3 D1 (in) "TTL and CMOS compatible input pins. Each pin has a 1-uA pullup resistor. The truth table shown above illustrates the functionality of D0 and D1.", 4 ILIM (in) "A resistor R(ILIM) from ILIM to GND sets the current limit I L to 250/R(ILIM) and 500/R(ILIM) for the TPS2114 and TPS2115, respectively.", 5 GND (power) "Ground", 6 IN2 (power) "Secondary power switch input. The IN2 switch can be enabled only if the IN2 supply is above the UVLO threshold and at least one supply exceeds the internal VDD UVLO.", 7 OUT (power) "Power switch output", 8 IN1 (power) "Primary power switch input. The IN1 switch can be enabled only if the IN1 supply is above the UVLO threshold and at least one supply exceeds the internal VDD UVLO."

## TPS2115PWR
designator U?
Dual In / Single Out Autoswitching Power MUX, Manual / Auto Switching, Adj. Cur Limit, Switch Status, 2.8 to 5.5 V, -40 to 85 degC, 8-pin TSSOP (PW), Green (RoHS & no Sb/Br); Manufacturer: Texas Instruments; PartNumber: TPS2115PWR; IN1 Output Current(Max)(A): 1.25; IN1 rDS(on)(Typ)(mOhm): 84; IN1, IN2 Input Voltage(Max)(V): 5.5; IN1, IN2 Input Voltage(Min)(V): 2.8; IN2 rDS(on)(Typ)(Ohms): 0.084; Number of Inputs: 2; SubFamily: Power Multiplexer (MUX); DatasheetVersion: SLVS447A; PackageVersion: revG, Feb-2011; PackageReference: PW8; PackageDescription: 8-Pin Plastic Thin Small Outline Package 3 x 4.4 mm Body ,0.65 mm Pitch; Supplier 1: Digi-Key; Supplier Part Number 1: TPS2115PWR-ND; Supplier 2: Newark; Supplier Part Number 2: 22H1368; Supplier 3: Mouser; Supplier Part Number 3: 595-TPS2115PWR; Eco-Plan: Green (RoHS & no Sb/Br); IN2 Output Current(Max)(A): 1.25; Mounting Technology: Surface Mount; Code_JEDEC: MO-153; ComponentLink1Description: Datasheet; ComponentLink1URL: http://www.ti.com/general/docs/lit/getliterature.tsp?genericPartNumber=TPS2115&fileType=pdf
footprint PW8_N (TSOP, 8-Leads, Body 3x4.4mm, Pitch 0.65mm, IPC Medium Density)
footprint PW8_L (TSOP, 8-Leads, Body 3x4.4mm, Pitch 0.65mm, IPC High Density)
footprint PW8_M (TSOP, 8-Leads, Body 3x4.4mm, Pitch 0.65mm, IPC Low Density)
pins: 1 STAT (hiz) "STAT is an open-drain output that is Hi-Z if the IN2 switch is ON. STAT pulls low if the IN1 switch is ON or if OUT is Hi-Z (i.e., E\N\ is equal to logic 0).", 2 D0 (in) "TTL and CMOS compatible input pins. Each pin has a 1-uA pullup resistor. The truth table shown above illustrates the functionality of D0 and D1.", 3 D1 (in) "TTL and CMOS compatible input pins. Each pin has a 1-uA pullup resistor. The truth table shown above illustrates the functionality of D0 and D1.", 4 ILIM (in) "A resistor R(ILIM) from ILIM to GND sets the current limit I L to 250/R(ILIM) and 500/R(ILIM) for the TPS2114 and TPS2115, respectively.", 5 GND (power) "Ground", 6 IN2 (power) "Secondary power switch input. The IN2 switch can be enabled only if the IN2 supply is above the UVLO threshold and at least one supply exceeds the internal VDD UVLO.", 7 OUT (power) "Power switch output", 8 IN1 (power) "Primary power switch input. The IN1 switch can be enabled only if the IN1 supply is above the UVLO threshold and at least one supply exceeds the internal VDD UVLO."

## TPS2115PWRG4
designator U?
Dual In / Single Out Autoswitching Power MUX, Manual / Auto Switching, Adj. Cur Limit, Switch Status, 2.8 to 5.5 V, -40 to 85 degC, 8-pin TSSOP (PW), Green (RoHS & no Sb/Br); Manufacturer: Texas Instruments; PartNumber: TPS2115PWRG4; IN1 Output Current(Max)(A): 1.25; IN1 rDS(on)(Typ)(mOhm): 84; IN1, IN2 Input Voltage(Max)(V): 5.5; IN1, IN2 Input Voltage(Min)(V): 2.8; IN2 rDS(on)(Typ)(Ohms): 0.084; Number of Inputs: 2; SubFamily: Power Multiplexer (MUX); DatasheetVersion: SLVS447A; PackageVersion: revG, Feb-2011; PackageReference: PW8; PackageDescription: 8-Pin Plastic Thin Small Outline Package 3 x 4.4 mm Body ,0.65 mm Pitch; Supplier 1: Digi-Key; Supplier Part Number 1: TPS2115PWRG4-ND; Supplier 2: Newark; Supplier Part Number 2: 67K8622; Supplier 3: Mouser; Supplier Part Number 3: 595-TPS2115PWRG4; Eco-Plan: Green (RoHS & no Sb/Br); IN2 Output Current(Max)(A): 1.25; Mounting Technology: Surface Mount; Code_JEDEC: MO-153; ComponentLink1Description: Datasheet; ComponentLink1URL: http://www.ti.com/general/docs/lit/getliterature.tsp?genericPartNumber=TPS2115&fileType=pdf
footprint PW8_N (TSOP, 8-Leads, Body 3x4.4mm, Pitch 0.65mm, IPC Medium Density)
footprint PW8_L (TSOP, 8-Leads, Body 3x4.4mm, Pitch 0.65mm, IPC High Density)
footprint PW8_M (TSOP, 8-Leads, Body 3x4.4mm, Pitch 0.65mm, IPC Low Density)
pins: 1 STAT (hiz) "STAT is an open-drain output that is Hi-Z if the IN2 switch is ON. STAT pulls low if the IN1 switch is ON or if OUT is Hi-Z (i.e., E\N\ is equal to logic 0).", 2 D0 (in) "TTL and CMOS compatible input pins. Each pin has a 1-uA pullup resistor. The truth table shown above illustrates the functionality of D0 and D1.", 3 D1 (in) "TTL and CMOS compatible input pins. Each pin has a 1-uA pullup resistor. The truth table shown above illustrates the functionality of D0 and D1.", 4 ILIM (in) "A resistor R(ILIM) from ILIM to GND sets the current limit I L to 250/R(ILIM) and 500/R(ILIM) for the TPS2114 and TPS2115, respectively.", 5 GND (power) "Ground", 6 IN2 (power) "Secondary power switch input. The IN2 switch can be enabled only if the IN2 supply is above the UVLO threshold and at least one supply exceeds the internal VDD UVLO.", 7 OUT (power) "Power switch output", 8 IN1 (power) "Primary power switch input. The IN1 switch can be enabled only if the IN1 supply is above the UVLO threshold and at least one supply exceeds the internal VDD UVLO."

## TPS22933ARSER
designator U?
Small, Triple-Input Power Multiplexer with Auto-Select and Low Drop-out Voltage Regulator, 2.5 to 12 V, -40 to 85 degC, 8-pin UQFN (RSE), Green (RoHS & no Sb/Br); Manufacturer: Texas Instruments; PartNumber: TPS22933ARSER; IN1 Output Current(Max)(A): 0.05; IN1 rDS(on)(Typ)(mOhm): 2600; IN1, IN2 Input Voltage(Max)(V): 12; IN1, IN2 Input Voltage(Min)(V): 2.5; IN2 rDS(on)(Typ)(Ohms): 2.6; Number of Inputs: 3; SubFamily: Power Multiplexer (MUX); DatasheetVersion: SLVSB34; PackageVersion: revD, Jan-2011; PackageReference: RSE8; PackageDescription: 8-Pin Plastic Quad Flatpack No-Lead, 1.5 x 1.5 mm Body, 0.5 mm Pitch; Supplier 1: Digi-Key; Supplier Part Number 1: 296-34979-2-ND; Supplier 2: Digi-Key; Supplier Part Number 2: 296-34979-1-ND; Supplier 3: Digi-Key; Supplier Part Number 3: 296-34979-6-ND; Supplier 4: Mouser; Supplier Part Number 4: N/A; Eco-Plan: Green (RoHS & no Sb/Br); IN2 Output Current(Max)(A): 0.05; Mounting Technology: Surface Mount; Code_JEDEC: MO-288; ComponentLink1Description: Datasheet; ComponentLink1URL: http://www.ti.com/general/docs/lit/getliterature.tsp?genericPartNumber=TPS22933A&fileType=pdf
footprint RSE8 (QFN, 8-Leads, Body 1.5x1.5mm, Pitch 0.5mm, TI Recommended)
pins: 1 BAT (power) "Source Voltage 1 (Battery)", 2 USB (power) "Source Voltage 2 (V+ USB)", 3 DC_IN (power) "Source Voltage 3 (DC Adapter)", 4 GND (power) "Ground", 5 EN (in) "VOUT Enable (Cannot be left floating)", 6 CAP "Capacitor for LDO", 7 VOUT (power) "Switched LDO Output", 8 LOUT (power) "Always on LDO Output"

## TPS22933ARSET
designator U?
Small, Triple-Input Power Multiplexer with Auto-Select and Low Drop-out Voltage Regulator, 2.5 to 12 V, -40 to 85 degC, 8-pin UQFN (RSE), Green (RoHS & no Sb/Br); Manufacturer: Texas Instruments; PartNumber: TPS22933ARSET; IN1 Output Current(Max)(A): 0.05; IN1 rDS(on)(Typ)(mOhm): 2600; IN1, IN2 Input Voltage(Max)(V): 12; IN1, IN2 Input Voltage(Min)(V): 2.5; IN2 rDS(on)(Typ)(Ohms): 2.6; Number of Inputs: 3; SubFamily: Power Multiplexer (MUX); DatasheetVersion: SLVSB34; PackageVersion: revD, Jan-2011; PackageReference: RSE8; PackageDescription: 8-Pin Plastic Quad Flatpack No-Lead, 1.5 x 1.5 mm Body, 0.5 mm Pitch; Supplier 1: Mouser; Supplier Part Number 1: N/A; Eco-Plan: Green (RoHS & no Sb/Br); IN2 Output Current(Max)(A): 0.05; Mounting Technology: Surface Mount; Code_JEDEC: MO-288; ComponentLink1Description: Datasheet; ComponentLink1URL: http://www.ti.com/general/docs/lit/getliterature.tsp?genericPartNumber=TPS22933A&fileType=pdf
footprint RSE8 (QFN, 8-Leads, Body 1.5x1.5mm, Pitch 0.5mm, TI Recommended)
pins: 1 BAT (power) "Source Voltage 1 (Battery)", 2 USB (power) "Source Voltage 2 (V+ USB)", 3 DC_IN (power) "Source Voltage 3 (DC Adapter)", 4 GND (power) "Ground", 5 EN (in) "VOUT Enable (Cannot be left floating)", 6 CAP "Capacitor for LDO", 7 VOUT (power) "Switched LDO Output", 8 LOUT (power) "Always on LDO Output"

## TPS22980RGPR
designator U?
Mux with Overcurrent Limit, 3.3 to 18 V, -40 to 85 degC, 20-pin QFN (RGP), Green (RoHS & no Sb/Br); Manufacturer: Texas Instruments; PartNumber: TPS22980RGPR; IN1 Output Current(Max)(A): 1.5; IN1 rDS(on)(Typ)(mOhm): 250; Number of Inputs: 2; SubFamily: Power Multiplexer (MUX); DatasheetVersion: SLVSB61B; PackageVersion: revG, Jul-2011; PackageReference: RGP20-2700X2700TP; PackageDescription: 20-Pin Plastic Quad Flatpack No-Lead, 4 x 4 mm Body, 0.5 mm Pitch; Supplier 1: Digi-Key; Supplier Part Number 1: 296-30077-2-ND; Supplier 2: Digi-Key; Supplier Part Number 2: 296-30077-1-ND; Supplier 3: Digi-Key; Supplier Part Number 3: 296-30077-6-ND; Supplier 4: Farnell; Supplier Part Number 4: 2099948; Supplier 5: Newark; Supplier Part Number 5: 05W5847; Supplier 6: Newark; Supplier Part Number 6: 76T8107; Supplier 7: Mouser; Supplier Part Number 7: 595-TPS22980RGPR; Eco-Plan: Green (RoHS & no Sb/Br); IN2 Output Current(Max)(A): 1.5; IN2 rDS(on)(Typ)(Ohms): 250; Mounting Technology: Surface Mount; Code_JEDEC: MO-220; ComponentLink1Description: Datasheet; ComponentLink1URL: http://www.ti.com/general/docs/lit/getliterature.tsp?genericPartNumber=TPS22980&fileType=pdf
footprint RGP20-2700X2700TP (QFN, 20-Leads, Body 4x4mm, Pitch 0.5mm, Thermal Pad 2.7x2.7mm, TI Recommended)
pins: 1 GND (power) "Device ground", 2 GND (power) "Device ground", 3 GND (power) "Device ground", 4 GND (power) "Device ground", 5 EN (in) "Device Enable.", 6 VHV (power) "High voltage power supply input. Place a minimum of 0.1uF capacitor as close to this pin as possible.", 7 VHV (power) "High voltage power supply input. Place a minimum of 0.1uF capacitor as close to this pin as possible.", 8 ISET_V3P3 (in) "Sets the  current limit for V3P3. Place resistor between this pin and GND. See Equation 1 to calculate resistor value.", 9 ISET_S3 (in) "Sets the  current  limit for VHV in S3 mode. Place resistor between this pin and GND.", 10 ISET_S0 (in) "Sets the current limit for VHV in S0 mode. Place resistor between this pin and GND.", 11 HV_EN (in) "High voltage output enable", 12 OUT (power) "Power output. Place a minimum of 1uF capacitor as close to this pin as possible.", 13 GND (power) "Device ground.", 14 OUT (power) "Power output. Place a minimum of 1uF capacitor as close to this pin as possible.", 15 RSVD (power) "Reserved. Must Tie to GND.", 16 RSVD (power) "Reserved. Must Tie to GND.", 17 S0 (in) "When this pin is asserted, the device is put in S0 mode. Otherwise the device operates in S3 mode.", 18 V3P3OUT (out) "3.3V bypass output. Place a minimum of 0.1uF capacitor as close to this pin as possible.", 19 V3P3 (power) "3.3V power supply input. Place a minimum of 0.1uF capacitor as close to this pin as possible.", 20 V3P3 (power) "3.3V power supply input. Place a minimum of 0.1uF capacitor as close to this pin as possible.", 21 EP (power) "Connect to GND"